# EAGLE library part KIPPSCHALTER_DOUBLE_2POS (library ++Bedrahtet)
TOGGLE SWITCH distributor RS Components
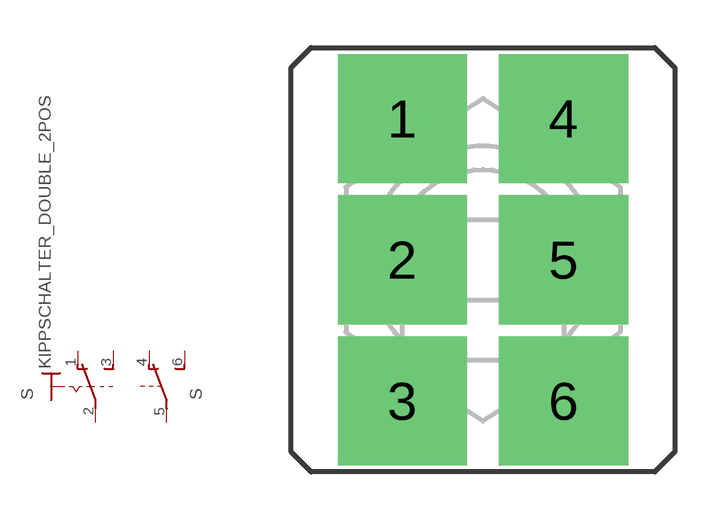
[diagram p13: symbol with the pads of 320-938; footprint 320-938]

Designator prefix S; gates B=U2 1=KS-U-

## KIPPSCHALTER_DOUBLE_2POS  [320-938]
1  1:O  pas
2  1:P  pas
3  1:S  pas
4  B:O  pas
5  B:P  pas
6  B:S  pas

## Footprint 320-938 (pad centres in mm)
TOGGLE SWITCH distributor RS Components
drill 2.4 pad 4.064 square: 1 -2.54,4.445; 2 -2.54,0; 3 -2.54,-4.445; 4 2.54,4.445; 5 2.54,0; 6 2.54,-4.445